# Altium footprint library IC_LOGIC_LIB.PcbLib: 3 footprints
Each footprint in its own frame and in the unit in brackets; x right, y up, seen from the top. Pads: shape width x height; smd on the part's side, far side on the other; paste and mask are expansions set on the pad; w line width, h text height; cw(c..) or ccw(c..) is an arc to the next point about the centre after c.
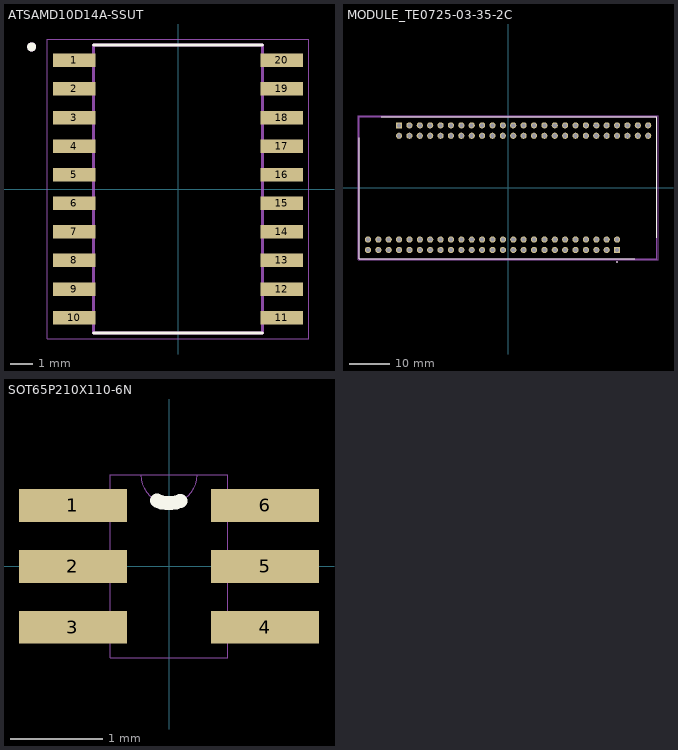
[diagram p0: the footprints below, top view; thin cyan lines are the x and y axes]

## ATSAMD10D14A-SSUT [mm] "ARM® Cortex®-M0+ SAM D10D Microcontroller IC 32-Bit 48MHz 16KB (16K x 8) FLASH 20-SOIC"
pads (20):
  rect 1.9x0.6 smd: 1(-4.605,5.715) 2(-4.605,4.445) 3(-4.605,3.175) 4(-4.605,1.905) 5(-4.605,0.635) 6(-4.605,-0.635) 7(-4.605,-1.905) 8(-4.605,-3.175) 9(-4.605,-4.445) 10(-4.605,-5.715) 11(4.605,-5.715) 12(4.605,-4.445) 13(4.605,-3.175) 14(4.605,-1.905) 15(4.605,-0.635) 16(4.605,0.635) 17(4.605,1.905) 18(4.605,3.175) 19(4.605,4.445) 20(4.605,5.715)
Top Overlay:
  circle w0.2: c-6.505,6.315 r0.1
  lines w0.127: -3.75,-6.4 3.75,-6.4 ; -3.75,6.4 3.75,6.4
Mechanical 11:
  lines w0.05: -5.805,-6.65 -5.805,6.65 5.805,6.65 5.805,-6.65 -5.805,-6.65
Mechanical 13:
  circle w0.2: c-6.505,6.315 r0.1
  circle w0.2: c-6.505,6.315 r0.1
  lines w0.127: -3.75,-6.4 -3.75,6.4 ; -3.75,-6.4 3.75,-6.4 ; -3.75,-6.4 -3.75,6.4 ; -3.75,-6.4 3.75,-6.4 ; -3.75,6.4 3.75,6.4 ; -3.75,6.4 3.75,6.4 ; 3.75,-6.4 3.75,6.4 ; 3.75,-6.4 3.75,6.4

## MODULE_TE0725-03-35-2C [mm]
pads (100):
  rect 1.508x1.508 hole 1: 1_1(26.69,-15.24) 1_2(-26.66,15.24)
  round 1.508 hole 1: 2_1(26.69,-12.7) 2_2(-26.66,12.7) 3_1(24.15,-15.24) 3_2(-24.12,15.24) 4_1(24.15,-12.7) 4_2(-24.12,12.7) 5_1(21.61,-15.24) 5_2(-21.58,15.24) 6_1(21.61,-12.7) 6_2(-21.58,12.7) 7_1(19.07,-15.24) 7_2(-19.04,15.24) 8_1(19.07,-12.7) 8_2(-19.04,12.7) 9_1(16.53,-15.24) 9_2(-16.5,15.24) 10_1(16.53,-12.7) 10_2(-16.5,12.7) 11_1(13.99,-15.24) 11_2(-13.96,15.24) 12_1(13.99,-12.7) 12_2(-13.96,12.7) 13_1(11.45,-15.24) 13_2(-11.42,15.24) 14_1(11.45,-12.7) 14_2(-11.42,12.7) 15_1(8.91,-15.24) 15_2(-8.88,15.24) 16_1(8.91,-12.7) 16_2(-8.88,12.7) 17_1(6.37,-15.24) 17_2(-6.34,15.24) 18_1(6.37,-12.7) 18_2(-6.34,12.7) 19_1(3.83,-15.24) 19_2(-3.8,15.24) 20_1(3.83,-12.7) 20_2(-3.8,12.7) 21_1(1.29,-15.24) 21_2(-1.26,15.24) 22_1(1.29,-12.7) 22_2(-1.26,12.7) 23_1(-1.25,-15.24) 23_2(1.28,15.24) 24_1(-1.25,-12.7) 24_2(1.28,12.7) 25_1(-3.79,-15.24) 25_2(3.82,15.24) 26_1(-3.79,-12.7) 26_2(3.82,12.7) 27_1(-6.33,-15.24) 27_2(6.36,15.24) 28_1(-6.33,-12.7) 28_2(6.36,12.7) 29_1(-8.87,-15.24) 29_2(8.9,15.24) 30_1(-8.87,-12.7) 30_2(8.9,12.7) 31_1(-11.41,-15.24) 31_2(11.44,15.24) 32_1(-11.41,-12.7) 32_2(11.44,12.7) 33_1(-13.95,-15.24) 33_2(13.98,15.24) 34_1(-13.95,-12.7) 34_2(13.98,12.7) 35_1(-16.49,-15.24) 35_2(16.52,15.24) 36_1(-16.49,-12.7) 36_2(16.52,12.7) 37_1(-19.03,-15.24) 37_2(19.06,15.24) 38_1(-19.03,-12.7) 38_2(19.06,12.7) 39_1(-21.57,-15.24) 39_2(21.6,15.24) 40_1(-21.57,-12.7) 40_2(21.6,12.7) 41_1(-24.11,-15.24) 41_2(24.14,15.24) 42_1(-24.11,-12.7) 42_2(24.14,12.7) 43_1(-26.65,-15.24) 43_2(26.68,15.24) 44_1(-26.65,-12.7) 44_2(26.68,12.7) 45_1(-29.19,-15.24) 45_2(29.22,15.24) 46_1(-29.19,-12.7) 46_2(29.22,12.7) 47_1(-31.73,-15.24) 47_2(31.76,15.24) 48_1(-31.73,-12.7) 48_2(31.76,12.7) 49_1(-34.27,-15.24) 49_2(34.3,15.24) 50_1(-34.27,-12.7) 50_2(34.3,12.7)
Top Overlay:
  circle w0.2: c26.69,-18.2 r0.1
  lines w0.127: -36.45,12.2 -36.45,-17.4 31,-17.4 ; -31,17.4 36.45,17.4 36.45,-12.2
Mechanical 13:
  circle w0.2: c26.69,-18.2 r0.1
  lines w0.127: -36.45,-17.4 -36.45,17.4 36.45,17.4 36.45,-17.4 -36.45,-17.4
Mechanical 15:
  lines w0.05: -36.7,-17.65 -36.7,17.65 36.7,17.65 36.7,-17.65 -36.7,-17.65

## SOT65P210X110-6N [mil]
pads (6):
  rect 46x14 smd: 1(-41,26) 2(-41,0) 3(-41,-26) 4(41,-26) 5(41,0) 6(41,26)
Top Overlay:
  lines w6: -5.1,28.04 ccw(c0,38.97) 4.9,27.96
Mechanical 11:
  lines w0: -25,-31 -25,-39 25,-39 25,-31 ; -25,-31 -25,-20 ; -25,-31 -47,-31 -47,-20 -25,-20 ; -25,-20 -25,-6 ; -25,-6 -25,6 ; -25,-6 -47,-6 -47,6 -25,6 ; -25,6 -25,20 ; -25,20 -25,31 ; -25,20 -47,20 -47,31 -25,31 ; -25,31 -25,39 -12,39 ; -12,39 ccw(c0,39) 12,39 ; -12,39 12,39 ; 12,39 25,39 25,31 ; 25,-31 25,-20 ; 25,-31 47,-31 47,-20 25,-20 ; 25,-20 25,-6 ; 25,-6 25,6 ; 25,-6 47,-6 47,6 25,6 ; 25,6 25,20 ; 25,20 25,31 ; 25,20 47,20 47,31 25,31
3D body "SC-88.stp": height 43.31, standoff 0, extent -47.24,-43.3 47.25,43.31